# EAGLE library part P8X32A-Q44 (library parallax_propeller)
Parallax Propeller P8X32A-Q44 44 Pin LQFP 32-bit Microprocessor http://www.parallax.com/propeller/
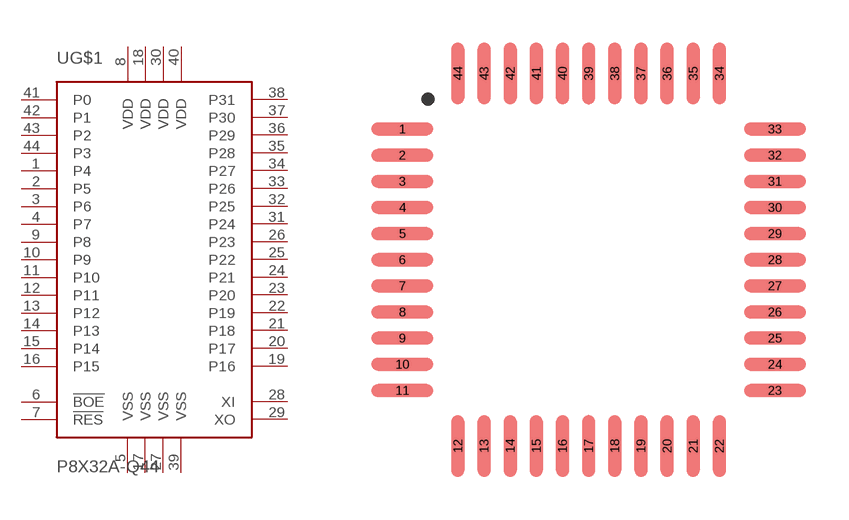
[diagram p1: symbol with the pads of LQFP-44; footprint LQFP-44]

Designator prefix -; gates G$1=P8X32A G$2=VDD G$3=VDD G$4=VDD G$5=VDD G$6=VSS G$7=VSS G$8=VSS G$9=VSS

## P8X32A-Q44  [LQFP-44]
1  G$1:P4
2  G$1:P5
3  G$1:P6
4  G$1:P7
5  G$6:VSS  in
6  G$1:!BOE  in
7  G$1:!RES
8  G$2:VDD  in
9  G$1:P8
10  G$1:P9
11  G$1:P10
12  G$1:P11
13  G$1:P12
14  G$1:P13
15  G$1:P14
16  G$1:P15
17  G$7:VSS  in
18  G$3:VDD  in
19  G$1:P16
20  G$1:P17
21  G$1:P18
22  G$1:P19
23  G$1:P20
24  G$1:P21
25  G$1:P22
26  G$1:P23
27  G$8:VSS  in
28  G$1:XI  in
29  G$1:XO  out
30  G$4:VDD  in
31  G$1:P24
32  G$1:P25
33  G$1:P26
34  G$1:P27
35  G$1:P28
36  G$1:P29
37  G$1:P30
38  G$1:P31
39  G$9:VSS  in
40  G$5:VDD  in
41  G$1:P0
42  G$1:P1
43  G$1:P2
44  G$1:P3

## Footprint LQFP-44 (pad centres in mm)
QFP
smd 1.9 x 0.4: 1 -5.7,4; 2 -5.7,3.2; 3 -5.7,2.4; 4 -5.7,1.6; 5 -5.7,0.8; 6 -5.7,0; 7 -5.7,-0.8; 8 -5.7,-1.6; 9 -5.7,-2.4; 10 -5.7,-3.2; 11 -5.7,-4; 23 5.7,-4; 24 5.7,-3.2; 25 5.7,-2.4; 26 5.7,-1.6; 27 5.7,-0.8; 28 5.7,0; 29 5.7,0.8; 30 5.7,1.6; 31 5.7,2.4; 32 5.7,3.2; 33 5.7,4
smd 0.4 x 1.9: 12 -4,-5.7; 13 -3.2,-5.7; 14 -2.4,-5.7; 15 -1.6,-5.7; 16 -0.8,-5.7; 17 0,-5.7; 18 0.8,-5.7; 19 1.6,-5.7; 20 2.4,-5.7; 21 3.2,-5.7; 22 4,-5.7; 34 4,5.7; 35 3.2,5.7; 36 2.4,5.7; 37 1.6,5.7; 38 0.8,5.7; 39 0,5.7; 40 -0.8,5.7; 41 -1.6,5.7; 42 -2.4,5.7; 43 -3.2,5.7; 44 -4,5.7